# EAGLE library part TPS61175-Q1 (library ICs)
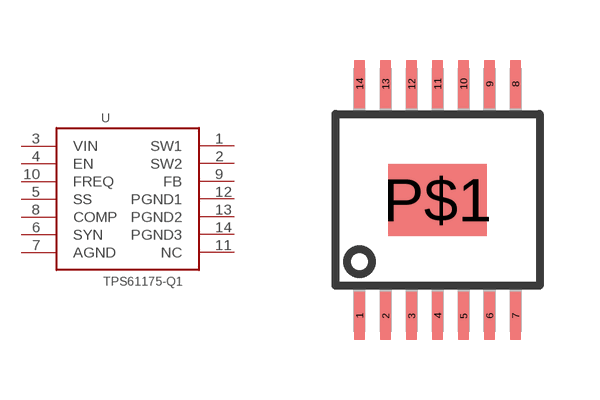
[diagram p6: symbol with the pads of HTSSOP14PWP; footprint HTSSOP14PWP]

Designator prefix -

## TPS61175-Q1  [HTSSOP14PWP]
1  SW1
2  SW2
3  VIN
4  EN
5  SS
6  SYN
7  AGND
8  COMP
9  FB
10  FREQ
11  NC
12  PGND1
13  PGND2
14  PGND3

## Footprint HTSSOP14PWP (pad centres in mm)
TPS40055PWP (R-PDSO-G**) PowerPAD (TM) 14 pol. PLASTIC SMALL-OUTLINE PACKAGE Source: www.ti.com ... TPS40055 package.pdf & slma002.pdf
smd 0.27 x 1.2: 1 -1.95,-2.9; 2 -1.3,-2.9; 3 -0.65,-2.9; 4 0,-2.9; 5 0.65,-2.9; 6 1.3,-2.9; 7 1.95,-2.9; 8 1.95,2.9; 9 1.3,2.9; 10 0.65,2.9; 11 0,2.9; 12 -0.65,2.9; 13 -1.3,2.9; 14 -1.95,2.9
smd 2.46 x 1.8: P$1 0,0